# Altium footprint library MAX20029ATIAV&plus_T.PcbLib: 3 footprints
Each footprint in its own frame and in the unit in brackets; x right, y up, seen from the top. Pads: shape width x height; smd on the part's side, far side on the other; paste and mask are expansions set on the pad; w line width, h text height; cw(c..) or ccw(c..) is an arc to the next point about the centre after c.
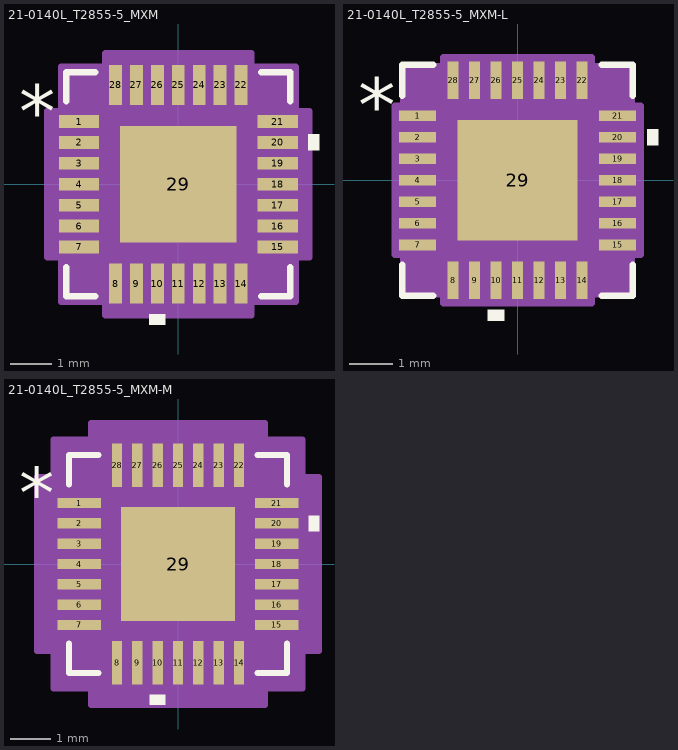
[diagram p0: the footprints below, top view; thin cyan lines are the x and y axes]

## 21-0140L_T2855-5_MXM [mil]
pads (29):
  rect 38x12 smd paste+0 mask+0: 1(-93.5,59.06) 2(-93.5,39.37) 3(-93.5,19.68) 4(-93.5,0) 5(-93.5,-19.68) 6(-93.5,-39.37) 7(-93.5,-59.06) 15(93.5,-59.06) 16(93.5,-39.37) 17(93.5,-19.68) 18(93.5,0) 19(93.5,19.68) 20(93.5,39.37) 21(93.5,59.06)
  rect 12x38 smd paste+0 mask+0: 8(-59.06,-93.5) 9(-39.37,-93.5) 10(-19.68,-93.5) 11(0,-93.5) 12(19.68,-93.5) 13(39.37,-93.5) 14(59.06,-93.5) 22(59.06,93.5) 23(39.37,93.5) 24(19.68,93.5) 25(0,93.5) 26(-19.68,93.5) 27(-39.37,93.5) 28(-59.06,93.5)
  rect 110x110 smd paste-55 mask+0: 29(0,0)
Top Overlay:
  region: 122.5,46.87 132.5,46.87 132.5,31.87 122.5,31.87
  region: -12.19,-122.5 -27.18,-122.5 -27.18,-132.5 -12.19,-132.5
  lines w6: -105.5,-78.16 -105.5,-105.5 -78.16,-105.5 ; -105.5,78.16 -105.5,105.5 -78.16,105.5 ; 78.16,-105.5 105.5,-105.5 105.5,-78.16 ; 78.16,105.5 105.5,105.5 105.5,78.16
  text "*" at -150,43.9 h50
Top Paste:
  region: 51.06,-3.94 3.94,-3.94 3.94,-51.06 51.06,-51.06
  region: 51.06,51.06 3.94,51.06 3.94,3.94 51.06,3.94
  region: -3.94,-3.94 -51.06,-3.94 -51.06,-51.06 -3.94,-51.06
  region: -3.94,51.06 -51.06,51.06 -51.06,3.94 -3.94,3.94
Mechanical 13:
  lines w1: -100.5,50.5 -50.5,100.5 ; -100.5,-100.5 -100.5,100.5 100.5,100.5 100.5,-100.5 -100.5,-100.5 ; -100.5,-65.06 -100.5,-53.06 -100.5,-65.06 ; -100.5,-45.37 -100.5,-33.37 -100.5,-45.37 ; -100.5,-25.68 -100.5,-13.69 -100.5,-25.68 ; -100.5,-6 -100.5,6 -100.5,-6 ; -100.5,13.69 -100.5,25.68 -100.5,13.69 ; -100.5,33.37 -100.5,45.37 -100.5,33.37 ; -100.5,53.06 -100.5,65.06 -100.5,53.06 ; -65.06,-100.5 -53.06,-100.5 -65.06,-100.5 ; -65.06,100.5 -53.06,100.5 -65.06,100.5 ; -45.37,-100.5 -33.37,-100.5 -45.37,-100.5 ; -45.37,100.5 -33.37,100.5 -45.37,100.5 ; -25.68,-100.5 -13.69,-100.5 -25.68,-100.5 ; -25.68,100.5 -13.69,100.5 -25.68,100.5 ; -6,-100.5 6,-100.5 -6,-100.5 ; -6,100.5 6,100.5 -6,100.5 ; 13.69,-100.5 25.68,-100.5 13.69,-100.5 ; 13.69,100.5 25.68,100.5 13.69,100.5 ; 33.37,-100.5 45.37,-100.5 33.37,-100.5 ; 33.37,100.5 45.37,100.5 33.37,100.5 ; 53.06,-100.5 65.06,-100.5 53.06,-100.5 ; 53.06,100.5 65.06,100.5 53.06,100.5 ; 100.5,-65.06 100.5,-53.06 100.5,-65.06 ; 100.5,-45.37 100.5,-33.37 100.5,-45.37 ; 100.5,-25.68 100.5,-13.69 100.5,-25.68 ; 100.5,-6 100.5,6 100.5,-6 ; 100.5,13.69 100.5,25.68 100.5,13.69 ; 100.5,33.37 100.5,45.37 100.5,33.37 ; 100.5,53.06 100.5,65.06 100.5,53.06
  text "*" at -87,43.9 h50
Mechanical 15:
  region: -68.9,-110.5 -110.5,-110.5 -110.5,-68.9 -123.5,-68.9 -123.5,68.9 -110.5,68.9 -110.5,110.5 -68.9,110.5 -68.9,123.5 68.9,123.5 68.9,110.5 110.5,110.5 110.5,68.9 123.5,68.9 123.5,-68.9 110.5,-68.9 110.5,-110.5 68.9,-110.5 68.9,-123.5 -68.9,-123.5
  lines w6: -123.5,-68.9 -123.5,68.9 -110.5,68.9 -110.5,110.5 -68.9,110.5 -68.9,123.5 68.9,123.5 68.9,110.5 110.5,110.5 110.5,68.9 123.5,68.9 123.5,-68.9 110.5,-68.9 110.5,-110.5 68.9,-110.5 68.9,-123.5 -68.9,-123.5 -68.9,-110.5 -110.5,-110.5 -110.5,-68.9 -123.5,-68.9
3D body "21-0140L_T2855-5_MXM.step": height 32.09, standoff 0, extent -100.51,-100.51 100.51,100.51

## 21-0140L_T2855-5_MXM-L [mil]
pads (29):
  rect 34x10 smd paste+0 mask+0: 1(-91.5,59.06) 2(-91.5,39.37) 3(-91.5,19.68) 4(-91.5,0) 5(-91.5,-19.68) 6(-91.5,-39.37) 7(-91.5,-59.06) 15(91.5,-59.06) 16(91.5,-39.37) 17(91.5,-19.68) 18(91.5,0) 19(91.5,19.68) 20(91.5,39.37) 21(91.5,59.06)
  rect 10x34 smd paste+0 mask+0: 8(-59.06,-91.5) 9(-39.37,-91.5) 10(-19.68,-91.5) 11(0,-91.5) 12(19.68,-91.5) 13(39.37,-91.5) 14(59.06,-91.5) 22(59.06,91.5) 23(39.37,91.5) 24(19.68,91.5) 25(0,91.5) 26(-19.68,91.5) 27(-39.37,91.5) 28(-59.06,91.5)
  rect 110x110 smd paste-55 mask+0: 29(0,0)
Top Overlay:
  region: -12.19,-118.5 -27.18,-118.5 -27.18,-128.5 -12.19,-128.5
  region: 118.5,46.87 128.5,46.87 128.5,31.87 118.5,31.87
  lines w6: -105.5,-77.16 -105.5,-105.5 -77.16,-105.5 ; -105.5,77.16 -105.5,105.5 -77.16,105.5 ; 77.16,-105.5 105.5,-105.5 105.5,-77.16 ; 77.16,105.5 105.5,105.5 105.5,77.16
  text "*" at -146,43.9 h50
  text ".Designator" at -137.5,-25 h50
Top Paste:
  region: -3.94,51.06 -51.06,51.06 -51.06,3.94 -3.94,3.94
  region: -3.94,-3.94 -51.06,-3.94 -51.06,-51.06 -3.94,-51.06
  region: 51.06,51.06 3.94,51.06 3.94,3.94 51.06,3.94
  region: 51.06,-3.94 3.94,-3.94 3.94,-51.06 51.06,-51.06
Mechanical 13:
  lines w1: -100.5,50.5 -50.5,100.5 ; -100.5,-100.5 100.5,-100.5 ; -100.5,-100.5 -100.5,100.5 ; -100.5,-100.5 -100.5,-100.5 ; -100.5,-65.06 -100.5,-53.06 ; -100.5,-65.06 -100.5,-53.06 ; -100.5,-65.06 -100.5,-65.06 ; -100.5,-53.06 -100.5,-53.06 ; -100.5,-45.37 -100.5,-33.37 ; -100.5,-45.37 -100.5,-33.37 ; -100.5,-45.37 -100.5,-45.37 ; -100.5,-33.37 -100.5,-33.37 ; -100.5,-25.68 -100.5,-13.69 ; -100.5,-25.68 -100.5,-13.69 ; -100.5,-25.68 -100.5,-25.68 ; -100.5,-13.69 -100.5,-13.69 ; -100.5,-6 -100.5,6 ; -100.5,-6 -100.5,6 ; -100.5,-6 -100.5,-6 ; -100.5,6 -100.5,6 ; -100.5,13.69 -100.5,25.68 ; -100.5,13.69 -100.5,25.68 ; -100.5,13.69 -100.5,13.69 ; -100.5,25.68 -100.5,25.68 ; -100.5,33.37 -100.5,45.37 ; -100.5,33.37 -100.5,45.37 ; -100.5,33.37 -100.5,33.37 ; -100.5,45.37 -100.5,45.37 ; -100.5,53.06 -100.5,65.06 ; -100.5,53.06 -100.5,65.06 ; -100.5,53.06 -100.5,53.06 ; -100.5,65.06 -100.5,65.06 ; -100.5,100.5 100.5,100.5 ; -100.5,100.5 -100.5,100.5 ; -65.06,-100.5 -53.06,-100.5 ; -65.06,-100.5 -65.06,-100.5 ; -65.06,-100.5 -53.06,-100.5 ; -65.06,100.5 -53.06,100.5 ; -65.06,100.5 -53.06,100.5 ; -65.06,100.5 -65.06,100.5 ; -53.06,-100.5 -53.06,-100.5 ; -53.06,100.5 -53.06,100.5 ; -45.37,-100.5 -33.37,-100.5 ; -45.37,-100.5 -45.37,-100.5 ; -45.37,-100.5 -33.37,-100.5 ; -45.37,100.5 -33.37,100.5 ; -45.37,100.5 -33.37,100.5 ; -45.37,100.5 -45.37,100.5 ; -33.37,-100.5 -33.37,-100.5 ; -33.37,100.5 -33.37,100.5 ; -25.68,-100.5 -13.69,-100.5 ; -25.68,-100.5 -25.68,-100.5 ; -25.68,-100.5 -13.69,-100.5 ; -25.68,100.5 -13.69,100.5 ; -25.68,100.5 -13.69,100.5 ; -25.68,100.5 -25.68,100.5 ; -13.69,-100.5 -13.69,-100.5 ; -13.69,100.5 -13.69,100.5 ; -6,-100.5 6,-100.5 ; -6,-100.5 -6,-100.5 ; -6,-100.5 6,-100.5 ; -6,100.5 6,100.5 ; -6,100.5 6,100.5 ; -6,100.5 -6,100.5 ; 6,-100.5 6,-100.5 ; 6,100.5 6,100.5 ; 13.69,-100.5 25.68,-100.5 ; 13.69,-100.5 13.69,-100.5 ; 13.69,-100.5 25.68,-100.5 ; 13.69,100.5 25.68,100.5 ; 13.69,100.5 25.68,100.5 ; 13.69,100.5 13.69,100.5 ; 25.68,-100.5 25.68,-100.5 ; 25.68,100.5 25.68,100.5 ; 33.37,-100.5 45.37,-100.5 ; 33.37,-100.5 33.37,-100.5 ; 33.37,-100.5 45.37,-100.5 ; 33.37,100.5 45.37,100.5 ; 33.37,100.5 45.37,100.5 ; 33.37,100.5 33.37,100.5 ; 45.37,-100.5 45.37,-100.5 ; 45.37,100.5 45.37,100.5 ; 53.06,-100.5 65.06,-100.5 ; 53.06,-100.5 53.06,-100.5 ; 53.06,-100.5 65.06,-100.5 ; 53.06,100.5 65.06,100.5 ; 53.06,100.5 65.06,100.5 ; 53.06,100.5 53.06,100.5 ; 65.06,-100.5 65.06,-100.5 ; 65.06,100.5 65.06,100.5 ; 100.5,-100.5 100.5,-100.5 ; 100.5,-100.5 100.5,100.5 ; 100.5,-65.06 100.5,-53.06 ; 100.5,-65.06 100.5,-65.06 ; 100.5,-65.06 100.5,-53.06 ; 100.5,-53.06 100.5,-53.06 ; 100.5,-45.37 100.5,-33.37 ; 100.5,-45.37 100.5,-45.37 ; 100.5,-45.37 100.5,-33.37 ; 100.5,-33.37 100.5,-33.37 ; 100.5,-25.68 100.5,-13.69 ; 100.5,-25.68 100.5,-25.68 ; 100.5,-25.68 100.5,-13.69 ; 100.5,-13.69 100.5,-13.69 ; 100.5,-6 100.5,6 ; 100.5,-6 100.5,-6 ; 100.5,-6 100.5,6 ; 100.5,6 100.5,6 ; 100.5,13.69 100.5,25.68 ; 100.5,13.69 100.5,13.69 ; 100.5,13.69 100.5,25.68 ; 100.5,25.68 100.5,25.68 ; 100.5,33.37 100.5,45.37 ; 100.5,33.37 100.5,33.37 ; 100.5,33.37 100.5,45.37 ; 100.5,45.37 100.5,45.37 ; 100.5,53.06 100.5,65.06 ; 100.5,53.06 100.5,53.06 ; 100.5,53.06 100.5,65.06 ; 100.5,65.06 100.5,65.06 ; 100.5,100.5 100.5,100.5
  text ".Designator" at -137.5,-25 h50
  text "*" at -87,43.9 h50
Mechanical 15:
  region: -68.06,-104.5 -104.5,-104.5 -104.5,-68.06 -112.5,-68.06 -112.5,68.06 -104.5,68.06 -104.5,104.5 -68.06,104.5 -68.06,112.5 68.06,112.5 68.06,104.5 104.5,104.5 104.5,68.06 112.5,68.06 112.5,-68.06 104.5,-68.06 104.5,-104.5 68.06,-104.5 68.06,-112.5 -68.06,-112.5
  lines w6: -112.5,-68.06 -104.5,-68.06 -104.5,-104.5 -68.06,-104.5 -68.06,-112.5 68.06,-112.5 68.06,-104.5 104.5,-104.5 104.5,-68.06 112.5,-68.06 112.5,68.06 104.5,68.06 104.5,104.5 68.06,104.5 68.06,112.5 -68.06,112.5 -68.06,104.5 -104.5,104.5 -104.5,68.06 -112.5,68.06 -112.5,-68.06
3D body "21-0140L_T2855-5_MXM.step": height 32.09, standoff 0, extent -100.51,-100.51 100.51,100.51

## 21-0140L_T2855-5_MXM-M [mil]
pads (29):
  rect 42x10 smd paste+0 mask+0: 1(-95.5,59.06) 2(-95.5,39.37) 3(-95.5,19.68) 4(-95.5,0) 5(-95.5,-19.68) 6(-95.5,-39.37) 7(-95.5,-59.06) 15(95.5,-59.06) 16(95.5,-39.37) 17(95.5,-19.68) 18(95.5,0) 19(95.5,19.68) 20(95.5,39.37) 21(95.5,59.06)
  rect 10x42 smd paste+0 mask+0: 8(-59.06,-95.5) 9(-39.37,-95.5) 10(-19.68,-95.5) 11(0,-95.5) 12(19.68,-95.5) 13(39.37,-95.5) 14(59.06,-95.5) 22(59.06,95.5) 23(39.37,95.5) 24(19.68,95.5) 25(0,95.5) 26(-19.68,95.5) 27(-39.37,95.5) 28(-59.06,95.5)
  rect 110x110 smd paste-55 mask+0: 29(0,0)
Top Overlay:
  region: -12.19,-126.5 -27.18,-126.5 -27.18,-136.5 -12.19,-136.5
  region: 126.5,46.87 136.5,46.87 136.5,31.87 126.5,31.87
  lines w6: -105.5,-77.16 -105.5,-105.5 -77.16,-105.5 ; -105.5,77.16 -105.5,105.5 -77.16,105.5 ; 77.16,-105.5 105.5,-105.5 105.5,-77.16 ; 77.16,105.5 105.5,105.5 105.5,77.16
  text "*" at -154,43.9 h50
  text ".Designator" at -137.5,-25 h50
Top Paste:
  region: -3.94,51.06 -51.06,51.06 -51.06,3.94 -3.94,3.94
  region: -3.94,-3.94 -51.06,-3.94 -51.06,-51.06 -3.94,-51.06
  region: 51.06,51.06 3.94,51.06 3.94,3.94 51.06,3.94
  region: 51.06,-3.94 3.94,-3.94 3.94,-51.06 51.06,-51.06
Mechanical 13:
  lines w1: -100.5,50.5 -50.5,100.5 ; -100.5,-100.5 100.5,-100.5 ; -100.5,-100.5 -100.5,100.5 ; -100.5,-100.5 -100.5,-100.5 ; -100.5,-65.06 -100.5,-53.06 ; -100.5,-65.06 -100.5,-53.06 ; -100.5,-65.06 -100.5,-65.06 ; -100.5,-53.06 -100.5,-53.06 ; -100.5,-45.37 -100.5,-33.37 ; -100.5,-45.37 -100.5,-33.37 ; -100.5,-45.37 -100.5,-45.37 ; -100.5,-33.37 -100.5,-33.37 ; -100.5,-25.68 -100.5,-13.69 ; -100.5,-25.68 -100.5,-13.69 ; -100.5,-25.68 -100.5,-25.68 ; -100.5,-13.69 -100.5,-13.69 ; -100.5,-6 -100.5,6 ; -100.5,-6 -100.5,6 ; -100.5,-6 -100.5,-6 ; -100.5,6 -100.5,6 ; -100.5,13.69 -100.5,25.68 ; -100.5,13.69 -100.5,25.68 ; -100.5,13.69 -100.5,13.69 ; -100.5,25.68 -100.5,25.68 ; -100.5,33.37 -100.5,45.37 ; -100.5,33.37 -100.5,45.37 ; -100.5,33.37 -100.5,33.37 ; -100.5,45.37 -100.5,45.37 ; -100.5,53.06 -100.5,65.06 ; -100.5,53.06 -100.5,65.06 ; -100.5,53.06 -100.5,53.06 ; -100.5,65.06 -100.5,65.06 ; -100.5,100.5 100.5,100.5 ; -100.5,100.5 -100.5,100.5 ; -65.06,-100.5 -53.06,-100.5 ; -65.06,-100.5 -65.06,-100.5 ; -65.06,-100.5 -53.06,-100.5 ; -65.06,100.5 -53.06,100.5 ; -65.06,100.5 -53.06,100.5 ; -65.06,100.5 -65.06,100.5 ; -53.06,-100.5 -53.06,-100.5 ; -53.06,100.5 -53.06,100.5 ; -45.37,-100.5 -33.37,-100.5 ; -45.37,-100.5 -45.37,-100.5 ; -45.37,-100.5 -33.37,-100.5 ; -45.37,100.5 -33.37,100.5 ; -45.37,100.5 -33.37,100.5 ; -45.37,100.5 -45.37,100.5 ; -33.37,-100.5 -33.37,-100.5 ; -33.37,100.5 -33.37,100.5 ; -25.68,-100.5 -13.69,-100.5 ; -25.68,-100.5 -25.68,-100.5 ; -25.68,-100.5 -13.69,-100.5 ; -25.68,100.5 -13.69,100.5 ; -25.68,100.5 -13.69,100.5 ; -25.68,100.5 -25.68,100.5 ; -13.69,-100.5 -13.69,-100.5 ; -13.69,100.5 -13.69,100.5 ; -6,-100.5 6,-100.5 ; -6,-100.5 -6,-100.5 ; -6,-100.5 6,-100.5 ; -6,100.5 6,100.5 ; -6,100.5 6,100.5 ; -6,100.5 -6,100.5 ; 6,-100.5 6,-100.5 ; 6,100.5 6,100.5 ; 13.69,-100.5 25.68,-100.5 ; 13.69,-100.5 13.69,-100.5 ; 13.69,-100.5 25.68,-100.5 ; 13.69,100.5 25.68,100.5 ; 13.69,100.5 25.68,100.5 ; 13.69,100.5 13.69,100.5 ; 25.68,-100.5 25.68,-100.5 ; 25.68,100.5 25.68,100.5 ; 33.37,-100.5 45.37,-100.5 ; 33.37,-100.5 33.37,-100.5 ; 33.37,-100.5 45.37,-100.5 ; 33.37,100.5 45.37,100.5 ; 33.37,100.5 45.37,100.5 ; 33.37,100.5 33.37,100.5 ; 45.37,-100.5 45.37,-100.5 ; 45.37,100.5 45.37,100.5 ; 53.06,-100.5 65.06,-100.5 ; 53.06,-100.5 53.06,-100.5 ; 53.06,-100.5 65.06,-100.5 ; 53.06,100.5 65.06,100.5 ; 53.06,100.5 65.06,100.5 ; 53.06,100.5 53.06,100.5 ; 65.06,-100.5 65.06,-100.5 ; 65.06,100.5 65.06,100.5 ; 100.5,-100.5 100.5,-100.5 ; 100.5,-100.5 100.5,100.5 ; 100.5,-65.06 100.5,-53.06 ; 100.5,-65.06 100.5,-65.06 ; 100.5,-65.06 100.5,-53.06 ; 100.5,-53.06 100.5,-53.06 ; 100.5,-45.37 100.5,-33.37 ; 100.5,-45.37 100.5,-45.37 ; 100.5,-45.37 100.5,-33.37 ; 100.5,-33.37 100.5,-33.37 ; 100.5,-25.68 100.5,-13.69 ; 100.5,-25.68 100.5,-25.68 ; 100.5,-25.68 100.5,-13.69 ; 100.5,-13.69 100.5,-13.69 ; 100.5,-6 100.5,6 ; 100.5,-6 100.5,-6 ; 100.5,-6 100.5,6 ; 100.5,6 100.5,6 ; 100.5,13.69 100.5,25.68 ; 100.5,13.69 100.5,13.69 ; 100.5,13.69 100.5,25.68 ; 100.5,25.68 100.5,25.68 ; 100.5,33.37 100.5,45.37 ; 100.5,33.37 100.5,33.37 ; 100.5,33.37 100.5,45.37 ; 100.5,45.37 100.5,45.37 ; 100.5,53.06 100.5,65.06 ; 100.5,53.06 100.5,53.06 ; 100.5,53.06 100.5,65.06 ; 100.5,65.06 100.5,65.06 ; 100.5,100.5 100.5,100.5
  text ".Designator" at -137.5,-25 h50
  text "*" at -87,43.9 h50
Mechanical 15:
  region: -84.06,-120.5 -120.5,-120.5 -120.5,-84.06 -136.5,-84.06 -136.5,84.06 -120.5,84.06 -120.5,120.5 -84.06,120.5 -84.06,136.5 84.06,136.5 84.06,120.5 120.5,120.5 120.5,84.06 136.5,84.06 136.5,-84.06 120.5,-84.06 120.5,-120.5 84.06,-120.5 84.06,-136.5 -84.06,-136.5
  lines w6: -136.5,-84.06 -120.5,-84.06 -120.5,-120.5 -84.06,-120.5 -84.06,-136.5 84.06,-136.5 84.06,-120.5 120.5,-120.5 120.5,-84.06 136.5,-84.06 136.5,84.06 120.5,84.06 120.5,120.5 84.06,120.5 84.06,136.5 -84.06,136.5 -84.06,120.5 -120.5,120.5 -120.5,84.06 -136.5,84.06 -136.5,-84.06
3D body "21-0140L_T2855-5_MXM.step": height 32.09, standoff 0, extent -100.51,-100.51 100.51,100.51